# Altium footprint library Capacitor.PcbLib: 28 footprints (part 1 of 2)
Each footprint in its own frame and in the unit in brackets; x right, y up, seen from the top. Pads: shape width x height; smd on the part's side, far side on the other; paste and mask are expansions set on the pad; w line width, h text height; cw(c..) or ccw(c..) is an arc to the next point about the centre after c.
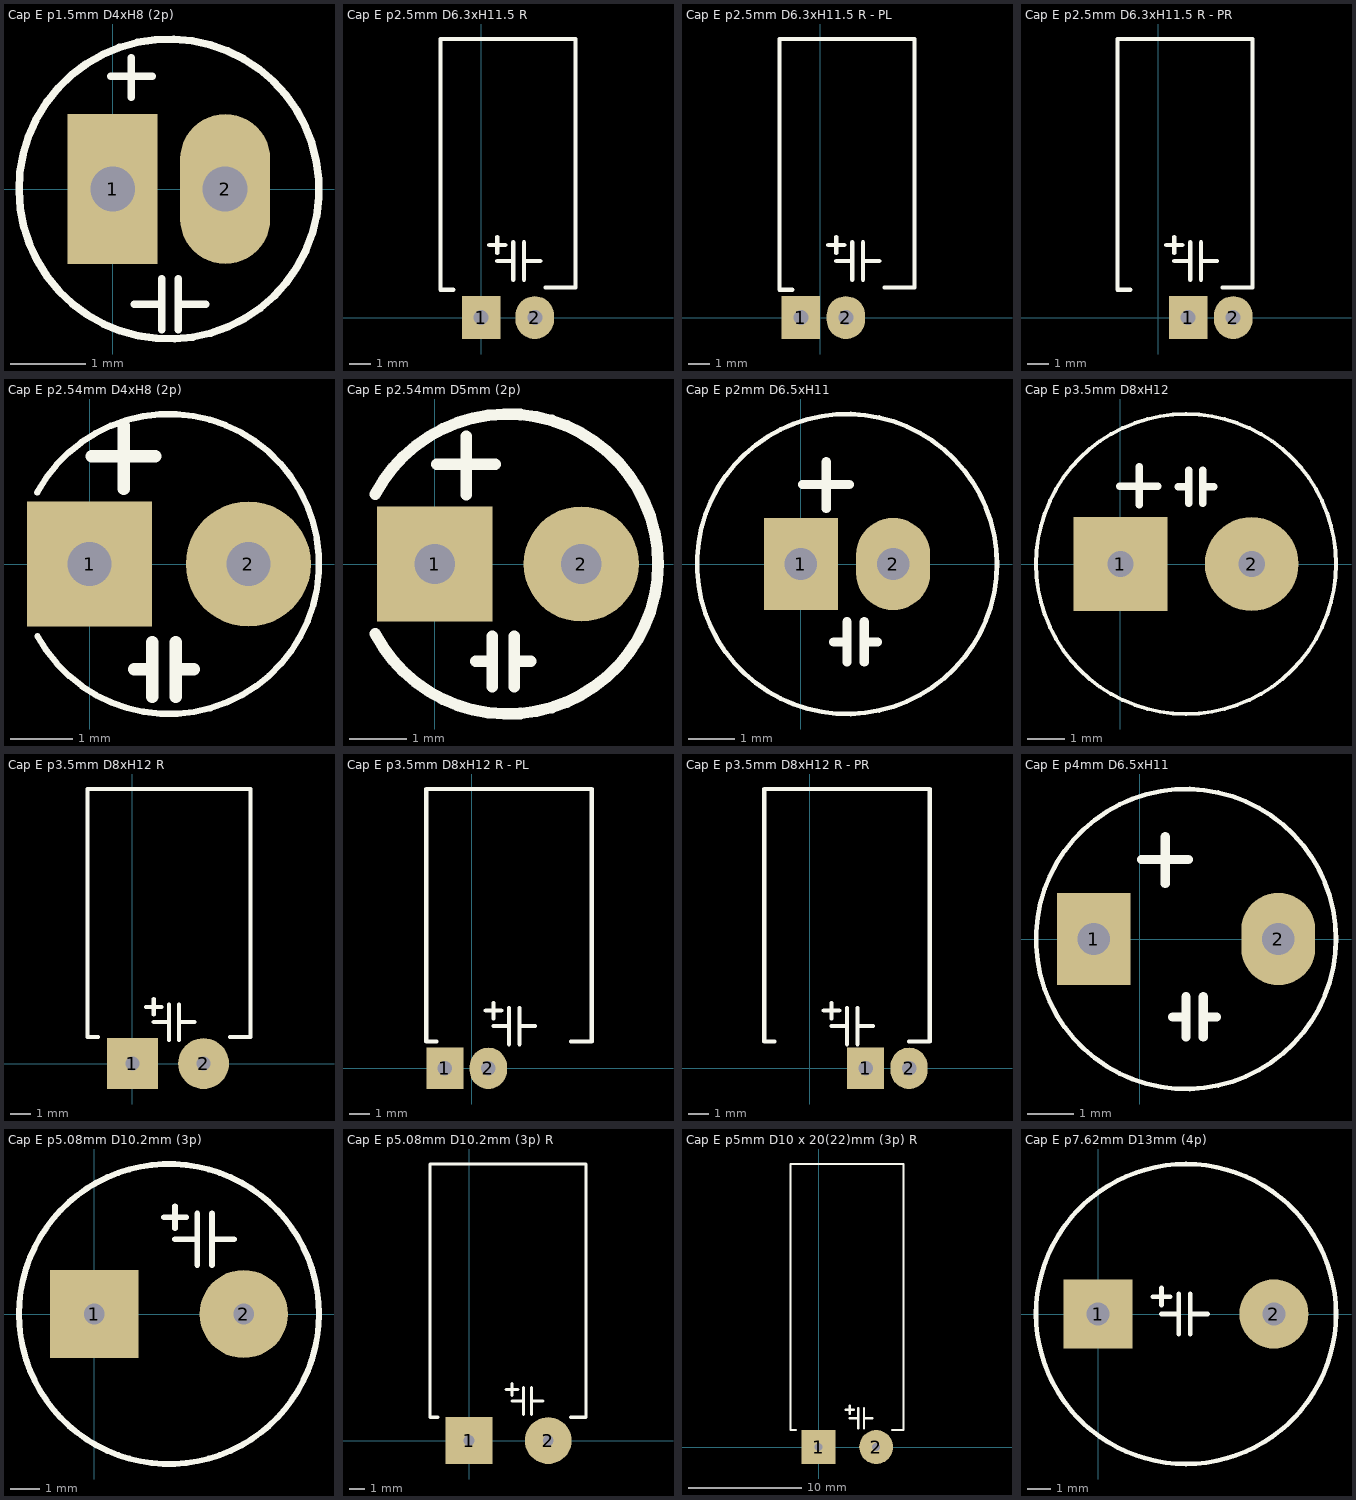
[diagram p0: the footprints below, top view; thin cyan lines are the x and y axes]

## Cap E p1.5mm D4xH8 (2p) [mm] "D 4mm; H 8mm"
height 8
pads (2):
  rect 1.2x2 hole 0.6: 1(0,0)
  oval 1.2x2 hole 0.6: 2(1.5,0)
Top Overlay:
  lines w0.1: -1.024,0.924 ccw(c0.75,0) -1.008,0.954 ; -0.025,1.5 0.525,1.5 ; 0.25,1.225 0.25,1.75 ; 0.288,-1.538 0.625,-1.538 ; 0.65,-1.875 0.65,-1.2 ; 0.875,-1.875 0.875,-1.2 ; 0.9,-1.538 1.238,-1.538
3D body "Capacitor Radial Electrolitic 400x700.step": height 7.31, standoff -2.4, extent -1.25,-2 2.743,2

## Cap E p2.5mm D6.3xH11.5 R [mm] "D 6.3mm; H 11.5mm"
height 6.3
pads (2):
  rect 1.8x2 hole 0.7: 1(0,0)
  oval 1.8x2 hole 0.7: 2(2.5,0)
Top Overlay:
  lines w0.2: -1.3,1.3 -1.9,1.3 -1.9,13 4.4,13 4.4,2.1 4.4,1.4 3,1.4 ; 0.375,3.39 1.125,3.39 ; 0.75,2.64 1.5,2.64 ; 0.75,3.015 0.75,3.765 ; 1.5,1.765 1.5,3.515 ; 2,1.765 2,3.515 ; 2,2.64 2.75,2.64
3D body "Cap E 6.3x11 p2.5 R.STEP": height 6.38, standoff -2.8, extent -1.925,-0.295 4.426,13.026

## Cap E p2.5mm D6.3xH11.5 R - PL [mm] "D 6.3mm; H 11.5mm"
height 6.3
pads (2):
  rect 1.8x2 hole 0.7: 1(-0.9,0)
  oval 1.8x2 hole 0.7: 2(1.2,0)
Top Overlay:
  lines w0.2: -1.3,1.3 -1.9,1.3 -1.9,13 4.4,13 4.4,2.1 4.4,1.4 3,1.4 ; 0.375,3.39 1.125,3.39 ; 0.75,2.64 1.5,2.64 ; 0.75,3.015 0.75,3.765 ; 1.5,1.765 1.5,3.515 ; 2,1.765 2,3.515 ; 2,2.64 2.75,2.64
3D body "Cap E 6.3x11 p2.5 R.STEP": height 6.38, standoff -2.8, extent -1.925,-0.295 4.426,13.026

## Cap E p2.5mm D6.3xH11.5 R - PR [mm] "D 6.3mm; H 11.5mm"
height 6.3
pads (2):
  rect 1.8x2 hole 0.7: 1(1.4,0)
  oval 1.8x2 hole 0.7: 2(3.5,0)
Top Overlay:
  lines w0.2: -1.3,1.3 -1.9,1.3 -1.9,13 4.4,13 4.4,2.1 4.4,1.4 3,1.4 ; 0.375,3.39 1.125,3.39 ; 0.75,2.64 1.5,2.64 ; 0.75,3.015 0.75,3.765 ; 1.5,1.765 1.5,3.515 ; 2,1.765 2,3.515 ; 2,2.64 2.75,2.64
3D body "Cap E 6.3x11 p2.5 R.STEP": height 6.38, standoff -2.8, extent -1.925,-0.295 4.426,13.026

## Cap E p2.54mm D4xH8 (2p) [mm] "D 4mm; H 8mm"
height 8
pads (2):
  rect 2x2 hole 0.7: 1(0,0)
  round 2 hole 0.7: 2(2.54,0)
Top Overlay:
  lines w0.1: -0.84,1.144 cw(c1.27,0) -0.834,-1.155
  lines w0.2: 0.034,1.725 1.05,1.725 ; 0.55,1.2 0.55,2.216 ; 0.713,-1.687 1,-1.687 ; 1,-2.125 1,-1.25 ; 1.375,-2.125 1.375,-1.25 ; 1.375,-1.687 1.663,-1.687
3D body "Capacitor Radial Electrolitic 400x700.step": height 7.31, standoff -2.4, extent -0.7,-2.05 3.293,1.95

## Cap E p2.54mm D5mm (2p) [mm] "D 5mm; H 8mm"
height 8
pads (2):
  rect 2x2 hole 0.7: 1(0,0)
  round 2 hole 0.7: 2(2.54,0)
Top Overlay:
  lines w0.2: -1.033,-1.208 ccw(c1.27,0) -1.033,1.208 ; 0.034,1.725 1.05,1.725 ; 0.55,1.2 0.55,2.216 ; 0.713,-1.687 1,-1.687 ; 1,-2.125 1,-1.25 ; 1.375,-2.125 1.375,-1.25 ; 1.375,-1.687 1.663,-1.687
3D body "Capacitor Electrolitico 5x11.step": height 12.2, standoff -1.4, extent -1.25,-2.5 3.75,2.5

## Cap E p2mm D6.5xH11 [mm] "D 6.5mm; H 11mm"
height 11
pads (2):
  rect 1.6x2 hole 0.7: 1(0,0)
  oval 1.6x2 hole 0.7: 2(2,0)
Top Overlay:
  circle w0.1: c1,0 r3.25
  lines w0.2: 0.034,1.725 1.05,1.725 ; 0.55,1.2 0.55,2.216 ; 0.713,-1.687 1,-1.687 ; 1,-2.125 1,-1.25 ; 1.375,-2.125 1.375,-1.25 ; 1.375,-1.687 1.663,-1.687
3D body "Capacitor Radial Electrolitic 650x1118.step": height 11.49, standoff -2.4, extent -2.216,-3.225 4.266,3.275

## Cap E p3.5mm D8xH12 [mm] "D 8mm; H 12mm"
height 12
pads (2):
  rect 2.5x2.5 hole 0.7: 1(0,0)
  round 2.5 hole 0.7: 2(3.5,0)
Top Overlay:
  circle w0.1: c1.75,0 r4
  lines w0.2: -0.016,2.075 1,2.075 ; 0.5,1.575 0.5,2.591 ; 1.538,2.063 1.825,2.063 ; 1.825,1.625 1.825,2.5 ; 2.2,1.625 2.2,2.5 ; 2.2,2.063 2.488,2.063
3D body "Capacitor Radial Electrolitic 800x1200.step": height 12.31, standoff -2.4, extent -2.225,-4 5.751,4

## Cap E p3.5mm D8xH12 R [mm] "D 8mm; H 12mm"
height 8
pads (2):
  rect 2.5x2.5 hole 0.7: 1(0,0)
  round 2.5 hole 0.7: 2(3.5,0)
Top Overlay:
  lines w0.2: -1.7,1.3 -2.2,1.3 -2.2,3.5 -2.2,13.5 5.8,13.5 5.8,2 5.8,1.3 4.8,1.3 ; 0.675,2.79 1.425,2.79 ; 1.05,2.04 1.8,2.04 ; 1.05,2.415 1.05,3.165 ; 1.8,1.165 1.8,2.915 ; 2.3,1.165 2.3,2.915 ; 2.3,2.04 3.05,2.04
3D body "Cap E D8x11.5 p3.5 R.STEP": height 8.13, standoff -1.9, extent -2.275,-0.295 5.776,13.526

## Cap E p3.5mm D8xH12 R - PL [mm] "D 8mm; H 12mm"
height 8
pads (2):
  rect 1.8x2 hole 0.7: 1(-1.3,0)
  oval 1.8x2 hole 0.7: 2(0.8,0)
Top Overlay:
  lines w0.2: -1.7,1.3 -2.2,1.3 -2.2,3.5 -2.2,13.5 5.8,13.5 5.8,2 5.8,1.3 4.8,1.3 ; 0.675,2.79 1.425,2.79 ; 1.05,2.04 1.8,2.04 ; 1.05,2.415 1.05,3.165 ; 1.8,1.165 1.8,2.915 ; 2.3,1.165 2.3,2.915 ; 2.3,2.04 3.05,2.04
3D body "Cap E D8x11.5 p3.5 R.STEP": height 8.13, standoff -1.9, extent -2.275,-0.295 5.776,13.526

## Cap E p3.5mm D8xH12 R - PR [mm] "D 8mm; H 12mm"
height 8
pads (2):
  rect 1.8x2 hole 0.7: 1(2.7,0)
  oval 1.8x2 hole 0.7: 2(4.8,0)
Top Overlay:
  lines w0.2: -1.7,1.3 -2.2,1.3 -2.2,3.5 -2.2,13.5 5.8,13.5 5.8,2 5.8,1.3 4.8,1.3 ; 0.675,2.79 1.425,2.79 ; 1.05,2.04 1.8,2.04 ; 1.05,2.415 1.05,3.165 ; 1.8,1.165 1.8,2.915 ; 2.3,1.165 2.3,2.915 ; 2.3,2.04 3.05,2.04
3D body "Cap E D8x11.5 p3.5 R.STEP": height 8.13, standoff -1.9, extent -2.275,-0.295 5.776,13.526

## Cap E p4mm D6.5xH11 [mm] "D 6.5mm; H 11mm"
height 11
pads (2):
  rect 1.6x2 hole 0.7: 1(-1,0)
  oval 1.6x2 hole 0.7: 2(3,0)
Top Overlay:
  circle w0.1: c1,0 r3.25
  lines w0.2: 0.034,1.725 1.05,1.725 ; 0.55,1.2 0.55,2.216 ; 0.713,-1.687 1,-1.687 ; 1,-2.125 1,-1.25 ; 1.375,-2.125 1.375,-1.25 ; 1.375,-1.687 1.663,-1.687
3D body "Capacitor Radial Electrolitic 650x1118.step": height 11.49, standoff -2.4, extent -2.216,-3.225 4.266,3.275

## Cap E p5.08mm D10.2mm (3p) [mm] "D 10.2mm; H 17.5mm, Hole: 0.7mm"
height 17.5
pads (2):
  rect 3x3 hole 0.7: 1(0,0)
  round 3 hole 0.7: 2(5.08,0)
Top Overlay:
  circle w0.2: c2.54,0 r5.1
  lines w0.2: 2.375,3.29 3.125,3.29 ; 2.75,2.54 3.5,2.54 ; 2.75,2.915 2.75,3.665 ; 3.5,1.665 3.5,3.415 ; 4,1.665 4,3.415 ; 4,2.54 4.75,2.54
3D body "Cap E 10x16 p5.STEP": height 16.53, standoff -3.74, extent -2.485,-4.971 7.565,5.08

## Cap E p5.08mm D10.2mm (3p) R [mm] "RIGHT - Len 16mm; D 10mm, Hole: 0.7mm"
height 10
pads (2):
  rect 3x3 hole 0.7: 1(0,0)
  round 3 hole 0.7: 2(5.08,0)
Top Overlay:
  lines w0.2: -2,1.5 -2.5,1.5 -2.5,2 -2.5,17.75 7.5,17.75 7.5,2.5 7.5,1.5 6.5,1.5 ; 2.375,3.29 3.125,3.29 ; 2.75,2.54 3.5,2.54 ; 2.75,2.915 2.75,3.665 ; 3.5,1.665 3.5,3.415 ; 4,1.665 4,3.415 ; 4,2.54 4.75,2.54
3D body "Cap E 10x16 p5 (R).STEP": height 10.23, standoff -3.48, extent -2.525,-0.3 7.525,17.689

## Cap E p5mm D10 x 20(22)mm (3p) R [mm] "RIGHT - Len 20-22mm; D 10mm, Hole: 0.7mm"
height 10
pads (2):
  rect 3x3 hole 0.7: 1(0,0)
  round 3 hole 0.7: 2(5.08,0)
Top Overlay:
  lines w0.2: -2,1.5 -2.5,1.5 -2.5,2 -2.5,25 7.5,25 7.5,2.5 7.5,1.5 6.5,1.5 ; 2.375,3.29 3.125,3.29 ; 2.75,2.54 3.5,2.54 ; 2.75,2.915 2.75,3.665 ; 3.5,1.665 3.5,3.415 ; 4,1.665 4,3.415 ; 4,2.54 4.75,2.54
3D body "Cap E D10x20 p5 (R) v2.STEP": height 10.1, standoff -2.5, extent -2.5,-0.3 7.5,25

## Cap E p7.62mm D13mm (4p) [mm] "D 13mm; H 25mm, Hole: 1mm"
height 25
pads (2):
  rect 3x3 hole 1: 1(0,0)
  round 3 hole 1: 2(7.62,0)
Top Overlay:
  circle w0.2: c3.81,0 r6.5
  lines w0.2: 2.375,0.75 3.125,0.75 ; 2.75,0 3.5,0 ; 2.75,0.375 2.75,1.125 ; 3.5,-0.875 3.5,0.875 ; 4,-0.875 4,0.875 ; 4,0 4.75,0
3D body "Capacitor Radial Electrolitic 1250x2500.step": height 25.21, standoff -2.5, extent -2.45,-6.25 10.007,6.25